# Altium footprint library PCB - RESISTOR - SHUNT - 3920.PCBLIB: 1 footprints
Each footprint in its own frame and in the unit in brackets; x right, y up, seen from the top. Pads: shape width x height; smd on the part's side, far side on the other; paste and mask are expansions set on the pad; w line width, h text height; cw(c..) or ccw(c..) is an arc to the next point about the centre after c.
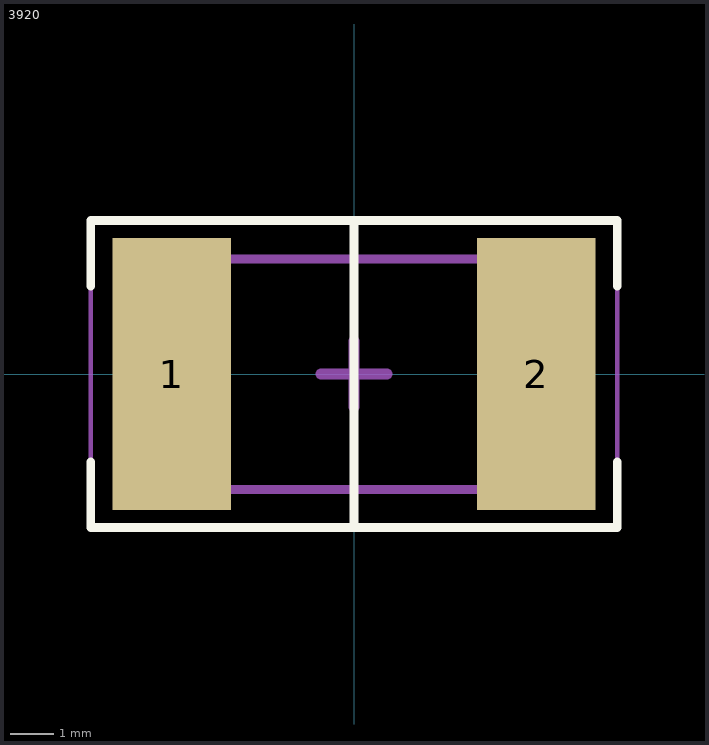
[diagram p0: the footprint, top view; thin cyan lines are the x and y axes]

## 3920 [mm] "Chip Shunt Resistor, 2mOhm, 5W, +-1%"
height 0.7
pads (2):
  rect 2.7x6.2 smd: 1(-4.15,0) 2(4.15,0)
Top Overlay:
  lines w0.2: -6,-2 -6,-3.5 6,-3.5 6,-2 ; -6,2 -6,3.5 6,3.5 6,2 ; 0,-3.5 0,0 0,3.5
Top Assembly:
  lines w0.2: -5.03,-2.63 5.06,-2.63 5.06,1.87 5.06,2.62 -5.03,2.62 -5.03,-2.63
Top Courtyard:
  lines w0.1: -6,-3.5 6,-3.5 6,3.5 -6,3.5 -6,-3.5
Top Designator:
  text ".Designator" at -4.93,4.043 h1
Top Component Center:
  lines w0.254: -0.75,0 0,0 ; 0,-0.75 0,0 ; 0,0.75 0,0 ; 0.75,0 0,0
3D body "Shunt_HYRF3920R002FT.step": height 1.12, standoff 0, extent -5.02,-2.621 5.033,2.627